# EAGLE library part NTLJF4156N (library power)
NTLJF4156N is Power MOSFET andSchottky Diode. 30 V, 4.6 A, N−Channel, with 2.0 A Schottky Barrier Diode, 2x2 mm WDFN Package
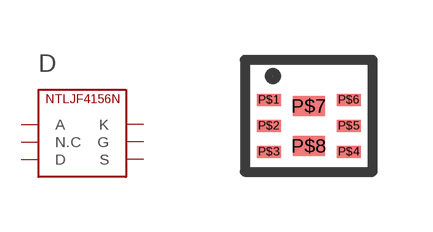
[diagram p3: symbol with the pads of WDFN-6; footprint WDFN-6]

Designator prefix D

## NTLJF4156N  [WDFN-6]
P$1  A  pwr
P$2  N.C  nc
P$3  D  pwr
P$4  S  pwr
P$5  G  pwr
P$6  K  pwr
P$7  K  pwr
P$8  D  pwr

## Footprint WDFN-6 (pad centres in mm)
smd 0.6 x 0.3: P$1 -0.1,0; P$2 -0.1,-0.65; P$3 -0.1,-1.3; P$4 1.9,-1.3; P$5 1.9,-0.65; P$6 1.9,0
smd 0.8 x 0.5: P$7 0.9,-0.15; P$8 0.9,-1.15